# Altium footprint library FTSH-105-01-XXX-DV-K.PcbLib: 1 footprints
Each footprint in its own frame and in the unit in brackets; x right, y up, seen from the top. Pads: shape width x height; smd on the part's side, far side on the other; paste and mask are expansions set on the pad; w line width, h text height; cw(c..) or ccw(c..) is an arc to the next point about the centre after c.
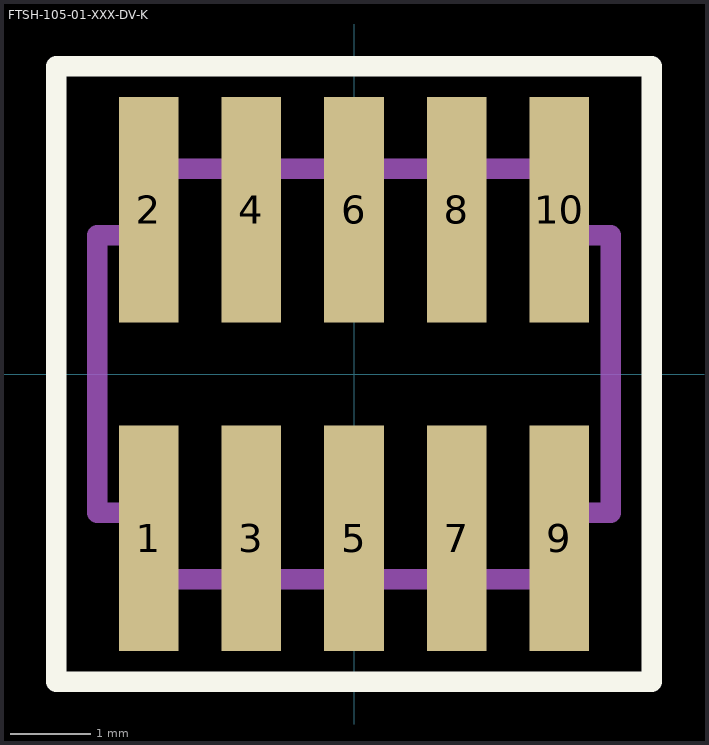
[diagram p0: the footprint, top view; thin cyan lines are the x and y axes]

## FTSH-105-01-XXX-DV-K [mil]
pads (10):
  rect 29x110 smd mask+2: 1(-100,-80) 2(-100,80) 3(-50,-80) 4(-50,80) 5(0,-80) 6(0,80) 7(50,-80) 8(50,80) 9(100,-80) 10(100,80)
Top Overlay:
  lines w10: -145,-150 -145,150 145,150 145,-150 -145,-150
Mechanical 1:
  lines w10: -125,-67.5 -125,67.5 -100,67.5 -100,100 100,100 100,67.5 125,67.5 125,-67.5 100,-67.5 100,-100 -100,-100 -100,-67.5 -125,-67.5
  text "J1" at -17.14,-17.5 h25